# Altium schematic symbol library mcp2515.SchLib: 1 symbol
Pins are listed as number, name and electrical type; pins without a type are passive.

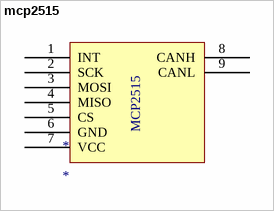
[diagram p0: symbol mcp2515]

## mcp2515
designator *
footprint mcp2515
pins: 1 INT, 2 SCK, 3 MOSI, 4 MISO, 5 CS, 6 GND, 7 VCC, 8 CANH, 9 CANL
text: MCP2515